# Altium schematic symbol library SCH - DIODES - ROHM MSL0104RGBU1.SCHLIB: 1 symbol
Pins are listed as number, name and electrical type; pins without a type are passive.

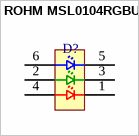
[diagram p0: symbol ROHM MSL0104RGBU1]

## ROHM MSL0104RGBU1
designator D?
pins: 1 CR, 2 AG, 3 CG, 4 AR, 5 CB, 6 AB, 7 CR